# Altium schematic symbol library Raspberry Pi Compute Module 3.Schlib: 1 symbol
Pins are listed as number, name and electrical type; pins without a type are passive.

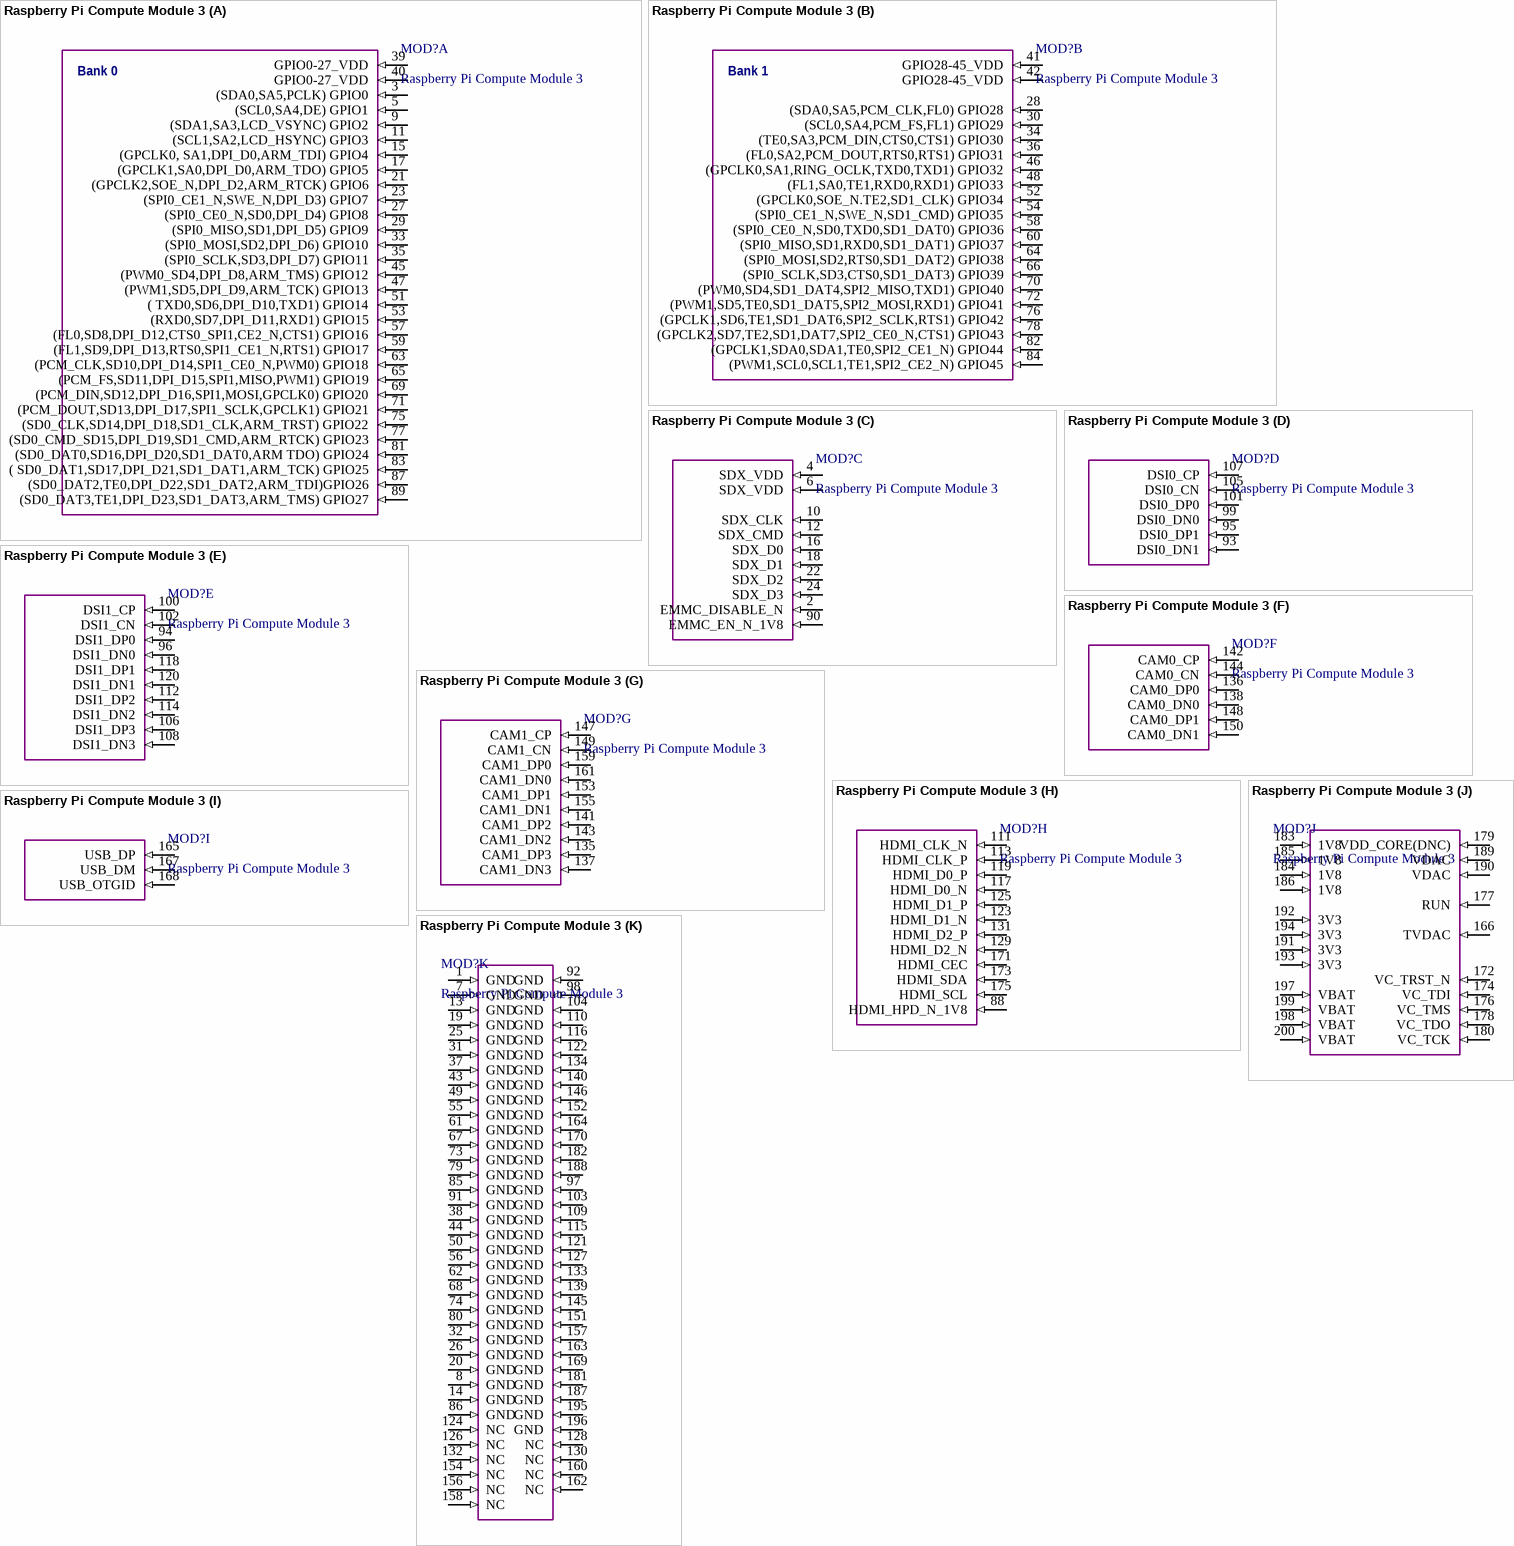
[diagram p0: symbol Raspberry Pi Compute Module 3]

## Raspberry Pi Compute Module 3
designator MOD?
part A pins: 3 (SDA0,SA5,PCLK) GPIO0 (in), 5 (SCL0,SA4,DE) GPIO1 (in), 9 (SDA1,SA3,LCD_VSYNC) GPIO2 (in), 11 (SCL1,SA2,LCD_HSYNC) GPIO3 (in), 15 (GPCLK0, SA1,DPI_D0,ARM_TDI) GPIO4 (in), 17 (GPCLK1,SA0,DPI_D0,ARM_TDO) GPIO5 (in), 21 (GPCLK2,SOE_N,DPI_D2,ARM_RTCK) GPIO6 (in), 23 (SPI0_CE1_N,SWE_N,DPI_D3) GPIO7 (in), 27 (SPI0_CE0_N,SD0,DPI_D4) GPIO8 (in), 29 (SPI0_MISO,SD1,DPI_D5) GPIO9 (in), 33 (SPI0_MOSI,SD2,DPI_D6) GPIO10 (in), 35 (SPI0_SCLK,SD3,DPI_D7) GPIO11 (in), 39 GPIO0-27_VDD (in), 40 GPIO0-27_VDD (in), 45 (PWM0_SD4,DPI_D8,ARM_TMS) GPIO12 (in), 47 (PWM1,SD5,DPI_D9,ARM_TCK) GPIO13 (in), 51 ( TXD0,SD6,DPI_D10,TXD1) GPIO14 (in), 53 (RXD0,SD7,DPI_D11,RXD1) GPIO15 (in), 57 (FL0,SD8,DPI_D12,CTS0_SPI1,CE2_N,CTS1) GPIO16 (in), 59 (FL1,SD9,DPI_D13,RTS0,SPI1_CE1_N,RTS1) GPIO17 (in), 63 (PCM_CLK,SD10,DPI_D14,SPI1_CE0_N,PWM0) GPIO18 (in), 65 (PCM_FS,SD11,DPI_D15,SPI1,MISO,PWM1) GPIO19 (in), 69 (PCM_DIN,SD12,DPI_D16,SPI1,MOSI,GPCLK0) GPIO20 (in), 71 (PCM_DOUT,SD13,DPI_D17,SPI1_SCLK,GPCLK1) GPIO21 (in), 75 (SD0_CLK,SD14,DPI_D18,SD1_CLK,ARM_TRST) GPIO22 (in), 77 (SD0_CMD_SD15,DPI_D19,SD1_CMD,ARM_RTCK) GPIO23 (in), 81  (SD0_DAT0,SD16,DPI_D20,SD1_DAT0,ARM TDO) GPIO24 (in), 83 ( SD0_DAT1,SD17,DPI_D21,SD1_DAT1,ARM_TCK) GPIO25 (in), 87 (SD0_DAT2,TE0,DPI_D22,SD1_DAT2,ARM_TDI)GPIO26 (in), 89 (SD0_DAT3,TE1,DPI_D23,SD1_DAT3,ARM_TMS) GPIO27 (in)
part B pins: 28 (SDA0,SA5,PCM_CLK,FL0) GPIO28 (in), 30 (SCL0,SA4,PCM_FS,FL1) GPIO29 (in), 34 (TE0,SA3,PCM_DIN,CTS0,CTS1) GPIO30 (in), 36 (FL0,SA2,PCM_DOUT,RTS0,RTS1) GPIO31 (in), 41 GPIO28-45_VDD (in), 42 GPIO28-45_VDD (in), 46 (GPCLK0,SA1,RING_OCLK,TXD0,TXD1) GPIO32 (in), 48 (FL1,SA0,TE1,RXD0,RXD1) GPIO33 (in), 52 (GPCLK0,SOE_N.TE2,SD1_CLK) GPIO34 (in), 54 (SPI0_CE1_N,SWE_N,SD1_CMD) GPIO35 (in), 58 (SPI0_CE0_N,SD0,TXD0,SD1_DAT0) GPIO36 (in), 60 (SPI0_MISO,SD1,RXD0,SD1_DAT1) GPIO37 (in), 64 (SPI0_MOSI,SD2,RTS0,SD1_DAT2) GPIO38 (in), 66 (SPI0_SCLK,SD3,CTS0,SD1_DAT3) GPIO39 (in), 70 (PWM0,SD4,SD1_DAT4,SPI2_MISO,TXD1) GPIO40 (in), 72 (PWM1,SD5,TE0,SD1_DAT5,SPI2_MOSI,RXD1) GPIO41 (in), 76 (GPCLK1,SD6,TE1,SD1_DAT6,SPI2_SCLK,RTS1) GPIO42 (in), 78 (GPCLK2,SD7,TE2,SD1,DAT7,SPI2_CE0_N,CTS1) GPIO43 (in), 82 (GPCLK1,SDA0,SDA1,TE0,SPI2_CE1_N) GPIO44 (in), 84 (PWM1,SCL0,SCL1,TE1,SPI2_CE2_N) GPIO45 (in)
part C pins: 2 EMMC_DISABLE_N (in), 4 SDX_VDD (in), 6 SDX_VDD (in), 10 SDX_CLK (in), 12 SDX_CMD (in), 16 SDX_D0 (in), 18 SDX_D1 (in), 22 SDX_D2 (in), 24 SDX_D3 (in), 90 EMMC_EN_N_1V8 (in)
part D pins: 93 DSI0_DN1 (in), 95 DSI0_DP1 (in), 99 DSI0_DN0 (in), 101 DSI0_DP0 (in), 105 DSI0_CN (in), 107 DSI0_CP (in)
part E pins: 94 DSI1_DP0 (in), 96 DSI1_DN0 (in), 100 DSI1_CP (in), 102 DSI1_CN (in), 106 DSI1_DP3 (in), 108 DSI1_DN3 (in), 112 DSI1_DP2 (in), 114 DSI1_DN2 (in), 118 DSI1_DP1 (in), 120 DSI1_DN1 (in)
part F pins: 136 CAM0_DP0 (in), 138 CAM0_DN0 (in), 142 CAM0_CP (in), 144 CAM0_CN (in), 148 CAM0_DP1 (in), 150 CAM0_DN1 (in)
part G pins: 135 CAM1_DP3 (in), 137 CAM1_DN3 (in), 141 CAM1_DP2 (in), 143 CAM1_DN2 (in), 147 CAM1_CP (in), 149 CAM1_CN (in), 153 CAM1_DP1 (in), 155 CAM1_DN1 (in), 159 CAM1_DP0 (in), 161 CAM1_DN0 (in)
part H pins: 88 HDMI_HPD_N_1V8 (in), 111 HDMI_CLK_N (in), 113 HDMI_CLK_P (in), 117 HDMI_D0_N (in), 119 HDMI_D0_P (in), 123 HDMI_D1_N (in), 125 HDMI_D1_P (in), 129 HDMI_D2_N (in), 131 HDMI_D2_P (in), 171 HDMI_CEC (in), 173 HDMI_SDA (in), 175 HDMI_SCL (in)
part I pins: 165 USB_DP (in), 167 USB_DM (in), 168 USB_OTGID (in)
part J pins: 166 TVDAC (in), 172 VC_TRST_N (in), 174 VC_TDI (in), 176 VC_TMS (in), 177 RUN (in), 178 VC_TDO (in), 179 VDD_CORE(DNC) (in), 180 VC_TCK (in), 183 1V8 (in), 184 1V8 (in), 185 1V8 (in), 186 1V8 (in), 189 VDAC (in), 190 VDAC (in), 191 3V3 (in), 192 3V3 (in), 193 3V3 (in), 194 3V3 (in), 197 VBAT (in), 198 VBAT (in), 199 VBAT (in), 200 VBAT (in)
part K pins: 1 GND (in), 7 GND (in), 8 GND (in), 13 GND (in), 14 GND (in), 19 GND (in), 20 GND (in), 25 GND (in), 26 GND (in), 31 GND (in), 32 GND (in), 37 GND (in), 38 GND (in), 43 GND (in), 44 GND (in), 49 GND (in), 50 GND (in), 55 GND (in), 56 GND (in), 61 GND (in), 62 GND (in), 67 GND (in), 68 GND (in), 73 GND (in), 74 GND (in), 79 GND (in), 80 GND (in), 85 GND (in), 86 GND (in), 91 GND (in), 92 GND (in), 97 GND (in), 98 GND (in), 103 GND (in), 104 GND (in), 109 GND (in), 110 GND (in), 115 GND (in), 116 GND (in), 121 GND (in), 122 GND (in), 124 NC (in), 126 NC (in), 127 GND (in), 128 NC (in), 130 NC (in), 132 NC (in), 133 GND (in), 134 GND (in), 139 GND (in), 140 GND (in), 145 GND (in), 146 GND (in), 151 GND (in), 152 GND (in), 154 NC (in), 156 NC (in), 157 GND (in), 158 NC (in), 160 NC (in), 162 NC (in), 163 GND (in), 164 GND (in), 169 GND (in), 170 GND (in), 181 GND (in), 182 GND (in), 187 GND (in), 188 GND (in), 195 GND (in), 196 GND (in)
part A text: Bank 0
part B text: Bank 1